# Altium footprint library S1-CM-V3.41.PcbLib: 63 footprints (part 3 of 4)
Each footprint in its own frame and in the unit in brackets; x right, y up, seen from the top. Pads: shape width x height; smd on the part's side, far side on the other; paste and mask are expansions set on the pad; w line width, h text height; cw(c..) or ccw(c..) is an arc to the next point about the centre after c.
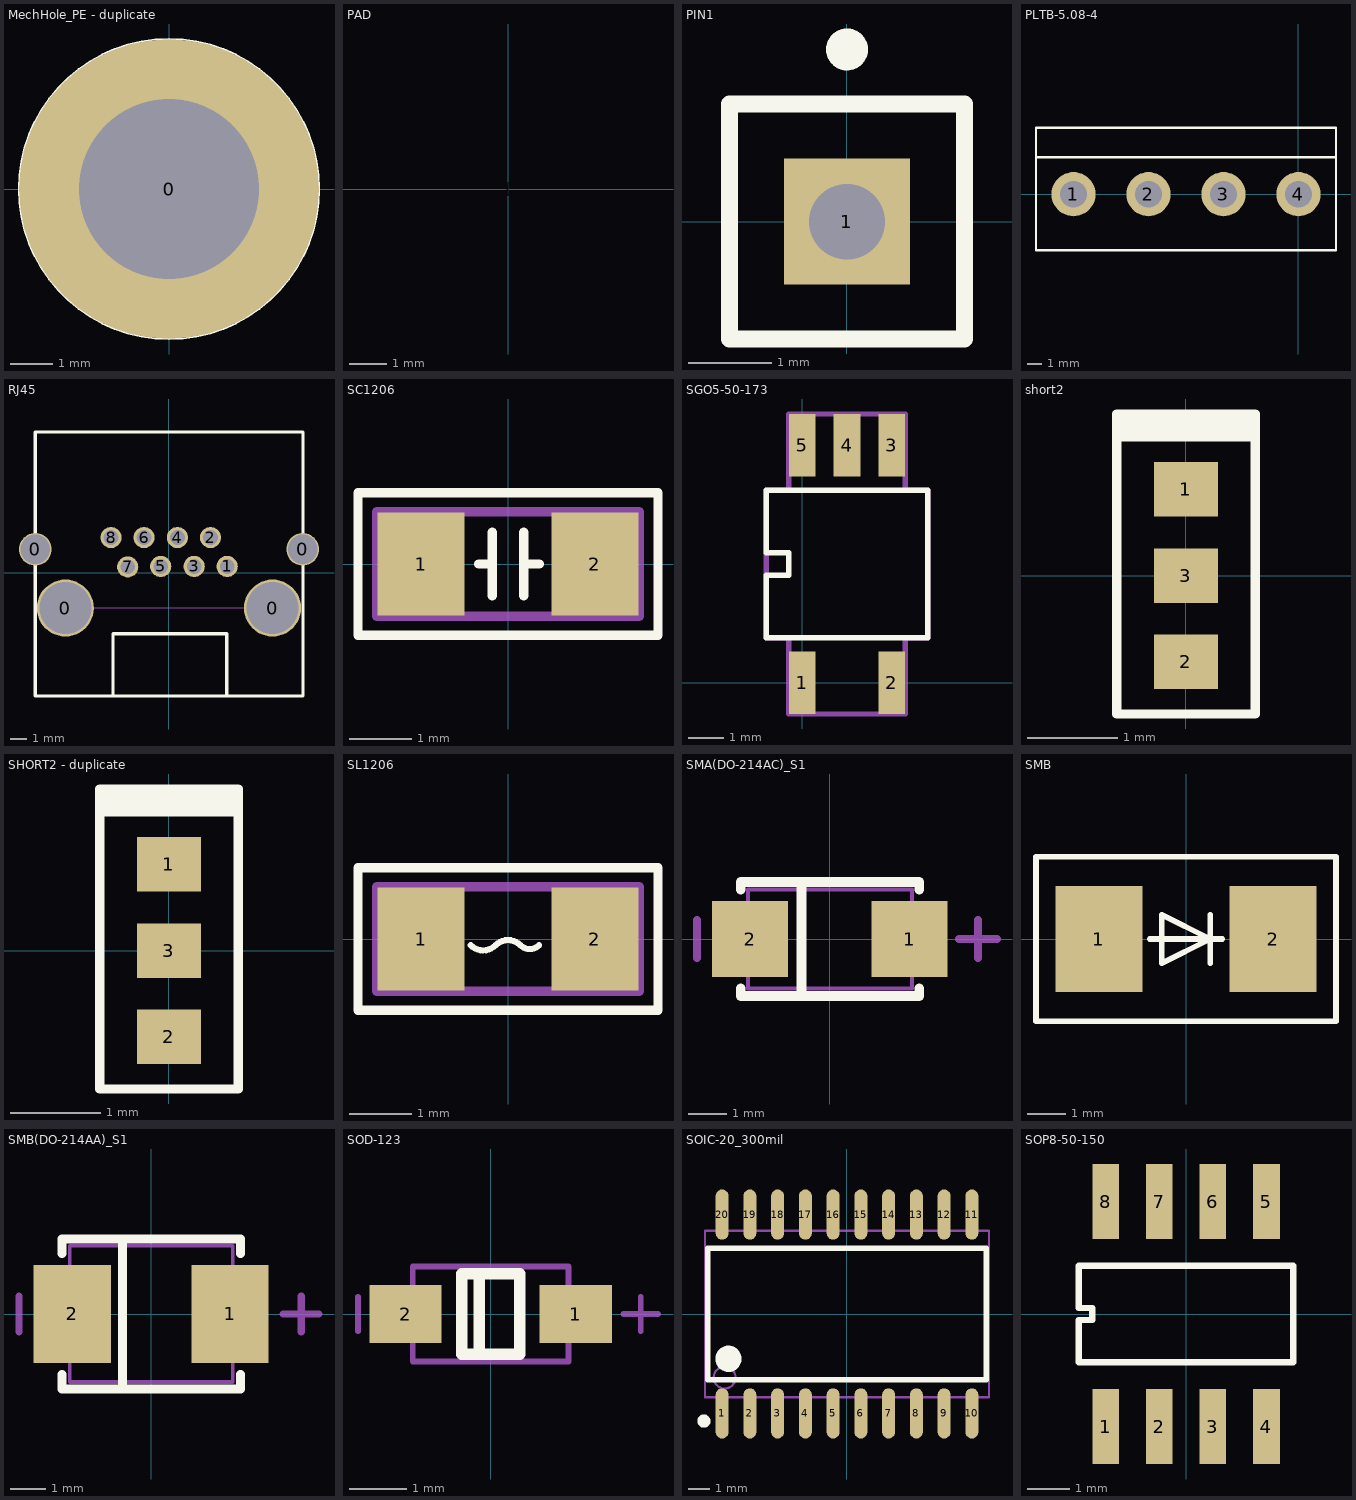
[diagram p2: the footprints below, top view; thin cyan lines are the x and y axes]

## MechHole_PE - duplicate [mm]
pads (1):
  round 7 hole 4.2 mask+0: 0(0,0)
Top Overlay:
  circle w0.05: c0,0 r3.5

## PAD [mm]
height 1.7
pads (1):
  round 8 on Mid2: 1(0,0)

## PIN1 [mm] "Generic Antenna; 1 Lead"
height 1.75
pads (1):
  rect 1.5x1.5 hole 0.9: 1(0,0)
Top Overlay:
  circle w0.25: c0,2.05 r0.125
  lines w0.2: -1.4,-1.4 1.4,-1.4 1.4,1.4 -1.4,1.4 -1.4,-1.4

## PLTB-5.08-4 [mm]
pads (4):
  round 3 hole 1.8: 1(-15.24,0) 2(-10.16,0) 3(-5.08,0) 4(0,0)
Top Overlay:
  lines w0.152: -17.74,2.5 2.54,2.5 ; -17.78,-3.8 2.54,-3.8 2.54,4.5 -17.78,4.5 -17.78,-3.8

## RJ45 [mm] "RJ45座"
height 10
pads (12):
  round 2 hole 1.8: 0(-8.2,1.437) 0(8.2,1.437)
  round 3.5 hole 3.2: 0(-6.357,-2.162) 0(6.35,-2.163)
  round 1.3 hole 0.9: 1(3.568,0.388) 2(2.543,2.163) 3(1.543,0.388) 4(0.518,2.163) 5(-0.507,0.388) 6(-1.532,2.163) 7(-2.532,0.363) 8(-3.557,2.163)
Top Overlay:
  lines w0.2: -3.432,-7.512 -3.432,-3.737 3.543,-3.737 3.543,-7.562 ; -8.2,-7.562 -8.2,8.638 8.225,8.638 8.225,-7.562 -8.2,-7.562
Mechanical 1:
  circle w0.013: c-2.544,0.384 r0.45
  circle w0.013: c-0.504,0.384 r0.45
  circle w0.013: c1.536,0.384 r0.45
  circle w0.013: c2.556,2.164 r0.45
  circle w0.013: c0.516,2.164 r0.45
  circle w0.013: c-1.524,2.164 r0.45
  circle w0.013: c3.576,0.384 r0.45
  circle w0.013: c-3.564,2.164 r0.45
  circle w0.013: c8.206,1.444 r0.9
  circle w0.013: c-8.194,1.444 r0.9
  circle w0.013: c6.356,-2.156 r1.6
  circle w0.013: c-6.344,-2.156 r1.6
  lines w0.013: -6.344,-2.156 6.356,-2.156
3D body: height 10, standoff 0, extent -8.3,-7.662 8.325,8.738

## SC1206 [mil]
pads (2):
  rect 55x65 smd: 1(-55,0) 2(55,0)
Top Overlay:
  lines w6: -18.5,0 -10,0 ; -10,-20 -10,20 ; 10,-20 10,20 ; 10,0 19.7,0 ; -95,-45 95,-45 95,45 -95,45 -95,-45
Mechanical 16:
  lines w6: -83,-33 83,-33 83,33 -83,33 -83,-33

## SGO5-50-173 [mil]
pads (5):
  rect 30x70 smd: 1(0,0) 2(100,0) 3(100,265) 4(50,265) 5(0,265)
Top Overlay:
  lines w6: -40,50 140,50 140,215 -40,215 -40,145 -15,145 -15,120 -40,120 -40,50
Mechanical 16:
  lines w6: -40,50 -15,50 -15,-35 115,-35 115,50 140,50 140,215 115,215 115,300 -15,300 -15,215 -40,215 -40,50

## short2 [mm]
height 1.75
pads (3):
  rect 0.7x0.6 smd: 1(0,0.95) 2(0,-0.95) 3(0,0)
Top Overlay:
  region: -0.762,1.524
  region: -0.762,1.778 0.762,1.778 0.762,1.524 -0.762,1.524
  lines w0.1: 0.762,1.524 -0.762,1.524 ; -0.762,1.524 -0.762,-1.524 0.762,-1.524 0.762,1.778 -0.762,1.778 -0.762,1.524

## SHORT2 - duplicate [mm]
pads (3):
  rect 0.7x0.6 smd: 1(0,0.95) 2(0,-0.95) 3(0,0)
Top Overlay:
  region: -0.762,1.778 0.762,1.778 0.762,1.524 -0.762,1.524
  region: -0.762,1.524
  lines w0.1: 0.762,1.524 -0.762,1.524 ; -0.762,1.524 -0.762,1.778 0.762,1.778 0.762,-1.524 -0.762,-1.524 -0.762,1.524

## SL1206 [mil]
pads (2):
  rect 55x65 smd: 1(-55,0) 2(55,0)
Top Overlay:
  lines w3.94: -23.62,-3.94 ccw(c-15.75,3.94) -7.87,-3.94 cw(c0,-11.81) 7.87,-3.94 ccw(c13.78,1.97) 19.68,-3.94
  lines w6: -95,-45 -95,45 95,45 95,-45 -95,-45
Mechanical 16:
  lines w6: -83,-33 -83,33 83,33 83,-33 -83,-33

## SMA(DO-214AC)_S1 [mm]
height 1.7
pads (2):
  rect 2x2 smd: 1(2.1,0) 2(-2.1,0)
Top Overlay:
  lines w0.254: -2.35,-1.3 -2.35,-1.5 2.35,-1.5 2.35,-1.3 ; -2.35,1.3 -2.35,1.5 2.35,1.5 2.35,1.3 ; -0.75,-1.5 -0.75,1.5
Mechanical 13:
  lines w0.1: -2.16,-1.3 -2.16,1.3 2.16,1.3 2.16,-1.3 -2.16,-1.3
Mechanical 15:
  lines w0.203: -3.5,-0.5 -3.5,0.5 ; 3.4,0 4.4,0 ; 3.9,-0.5 3.9,0.5

## SMB [mil]
pads (2):
  rect 90x110 smd: 1(-90,0) 2(90,0)
Top Overlay:
  lines w6: -37.5,0 37.5,0 ; 25,-25 25,25 ; -155,-85 -155,85 155,85 155,-85 -155,-85 ; -25,-25 -25,25 25,0 -25,-25

## SMB(DO-214AA)_S1 [mm]
height 1.75
pads (2):
  rect 2.159x2.743 smd: 1(2.21,0) 2(-2.21,0)
Top Overlay:
  lines w0.254: -2.5,-1.7 -2.5,-2.1 2.5,-2.1 2.5,-1.7 ; -2.5,1.7 -2.5,2.1 2.5,2.1 2.5,1.7 ; -0.8,-2.1 -0.8,2.1
Mechanical 13:
  lines w0.1: -2.285,-1.905 -2.285,1.905 2.285,1.905 2.285,-1.905 -2.285,-1.905
Mechanical 15:
  lines w0.203: -3.7,-0.5 -3.7,0.5 ; 3.7,0 4.7,0 ; 4.2,-0.5 4.2,0.5

## SOD-123 [mm]
pads (2):
  rect 1.25x1 smd: 1(1.475,0) 2(-1.475,0)
Top Overlay:
  lines w0.2: -0.2,-0.7 -0.2,0.7 ; -0.5,-0.7 0.5,-0.7 0.5,0.7 -0.5,0.7 -0.5,-0.7
Mechanical 13:
  lines w0.1: -1.35,-0.825 -1.35,0.825 1.35,0.825 1.35,-0.825 -1.35,-0.825
Mechanical 15:
  lines w0.1: -2.3,-0.3 -2.3,0.3 ; 2.3,0 2.9,0 ; 2.6,-0.3 2.6,0.3
3D body: height 1.35, standoff 0, extent -1.85,-0.775 1.85,0.775

## SOIC-20_300mil [mm]
height 1.7
pads (20):
  oval 0.6x2.3 smd: 1(-5.715,-4.55) 2(-4.445,-4.55) 3(-3.175,-4.55) 4(-1.905,-4.55) 5(-0.635,-4.55) 6(0.635,-4.55) 7(1.905,-4.55) 8(3.175,-4.55) 9(4.445,-4.55) 10(5.715,-4.55) 11(5.715,4.55) 12(4.445,4.55) 13(3.175,4.55) 14(1.905,4.55) 15(0.635,4.55) 16(-0.635,4.55) 17(-1.905,4.55) 18(-3.175,4.55) 19(-4.445,4.55) 20(-5.715,4.55)
Top Overlay:
  circle w0.3: c-6.55,-4.9 r0.15
  circle w0.6: c-5.425,-2.05 r0.3
  lines w0.254: -6.375,-3 -6.375,3 6.375,3 6.375,-3 -6.375,-3
Mechanical 13:
  circle w0.1: c-5.6,-2.91 r0.5
  lines w0.1: -6.5,-3.81 -6.5,3.81 6.5,3.81 6.5,-3.81 -6.5,-3.81

## SOP8-50-150 [mil]
height 66.93
pads (8):
  rect 25x70 smd: 1(-75,-105) 2(-25,-105) 3(25,-105) 4(75,-105) 5(75,105) 6(25,105) 7(-25,105) 8(-75,105)
Top Overlay:
  lines w6: -100,-45 100,-45 100,45 -100,45 -100,5.63 -87.5,5.63 -87.5,-5.62 -100,-5.62 -100,-45